# Altium footprint library TBP02R2W38106BE.PcbLib: 1 footprints
Each footprint in its own frame and in the unit in brackets; x right, y up, seen from the top. Pads: shape width x height; smd on the part's side, far side on the other; paste and mask are expansions set on the pad; w line width, h text height; cw(c..) or ccw(c..) is an arc to the next point about the centre after c.
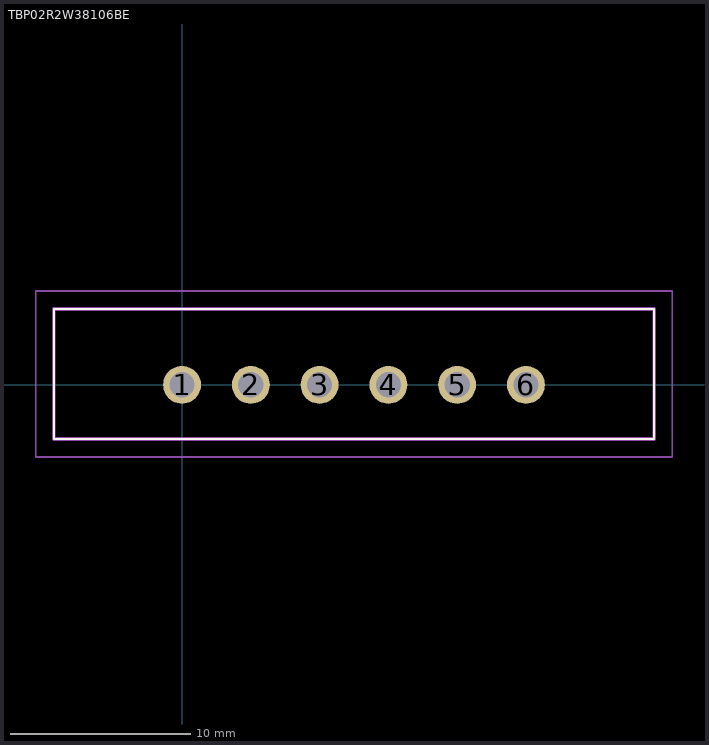
[diagram p0: the footprint, top view; thin cyan lines are the x and y axes]

## TBP02R2W38106BE [mm]
pads (6):
  round 2.1 hole 1.4: 1(0,0) 2(3.81,0) 3(7.62,0) 4(11.43,0) 5(15.24,0) 6(19.05,0)
Top Overlay:
  lines w0.1: -7.1,-3 26.15,-3 26.15,4.2 -7.1,4.2 -7.1,-3
Mechanical 15:
  lines w0.2: -7.1,-3 26.15,-3 26.15,4.2 -7.1,4.2 -7.1,-3
Mechanical 20:
  lines w0.1: -8.1,-4 27.15,-4 27.15,5.2 -8.1,5.2 -8.1,-4